# Altium integrated library PUSHBUTTON_SMD_6 x 6 mm, 6.5 mm.IntLib: 1 symbol
Pins are listed as number, name and electrical type; pins without a type are passive.

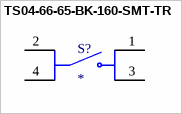
[diagram p0: symbol TS04-66-65-BK-160-SMT-TR]

## TS04-66-65-BK-160-SMT-TR
designator S?
MP: TS04-66-65-BK-160-SMT-TR; Package: None; Price: None; Value: *; Availability: Unavailable
footprint SW_TS04-66-65-BK-160-SMT-TR
pins: 1, 2, 3, 4